# Altium schematic symbol library B82559_A027.SchLib: 1 symbol
Pins are listed as number, name and electrical type; pins without a type are passive.

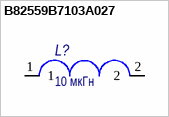
[diagram p0: symbol B82559B7103A027]

## B82559B7103A027
designator L?  value 10 мкГн  (hidden comment: B82559B7103A027)
!!! Обязательно Впишите описание символа; ID: B82559B7103A027
footprint B82559B7103A027
pins: 1, 2